# Altium schematic symbol library INA281B1.SchLib: 2 symbols
Pins are listed as number, name and electrical type; pins without a type are passive.

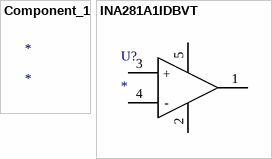
[diagram p0: symbols Component_1 to INA281A1IDBVT]

## Component_1
designator *

## INA281A1IDBVT
designator U?
No Description Available; Manufacturer: Texas Instruments; PartNumber: INA281A1IDBVR; RefDes: RefDes; Type: DEV; Value: Value; Copyright: Copyright (C) 2021 Accelerated Designs. All rights reserved
pins: 1 OUT, 2 GND (power), 3 IN+ (hiz), 4 IN- (hiz), 5 VS (power)
text: +; -